# Altium footprint library RES_VAR_RM-065.PcbLib: 1 footprints
Each footprint in its own frame and in the unit in brackets; x right, y up, seen from the top. Pads: shape width x height; smd on the part's side, far side on the other; paste and mask are expansions set on the pad; w line width, h text height; cw(c..) or ccw(c..) is an arc to the next point about the centre after c.
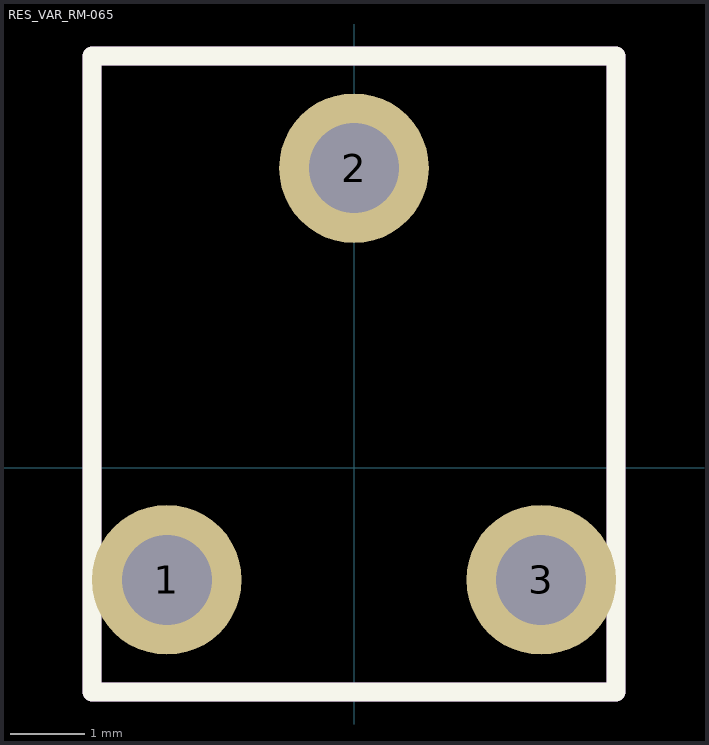
[diagram p0: the footprint, top view; thin cyan lines are the x and y axes]

## RES_VAR_RM-065 [mm]
pads (3):
  round 2 hole 1.2: 1(-2.5,-1.5) 2(0,4) 3(2.5,-1.5)
Top Overlay:
  lines w0.254: -3.5,-3 -3.5,5.5 3.5,5.5 3.5,-3 -3.5,-3
Top Assembly:
  lines w0.254: -3.5,-3 -3.5,5.5 3.5,5.5 3.5,-3 -3.5,-3
  text "'.Designator'" at 0,0 h0.7
3D body "User Library-RM-065.STEP": height 8.2, standoff -2.6, extent -3.25,-2.243 3.25,5